# Altium schematic symbol library SCH - MCU - NUVOTON - NUVOTON M058SLAN.SchLib: 1 symbol
Pins are listed as number, name and electrical type; pins without a type are passive.

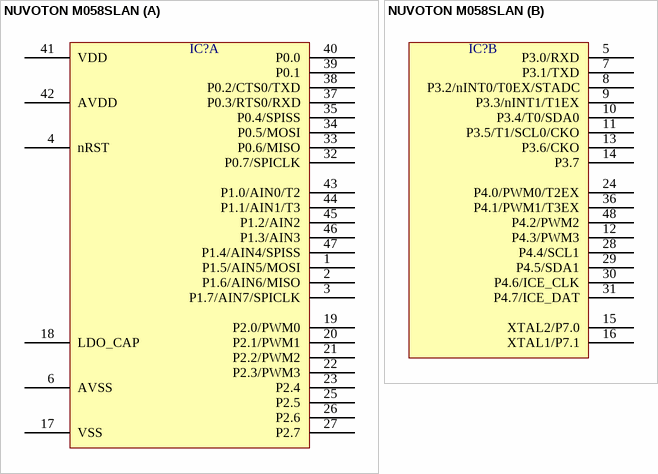
[diagram p0: symbol NUVOTON M058SLAN]

## NUVOTON M058SLAN
designator IC?  (value not drawn)
part A pins: 1 P1.5/AIN5/MOSI, 2 P1.6/AIN6/MISO, 3 P1.7/AIN7/SPICLK, 4 nRST, 6 AVSS, 17 VSS, 18 LDO_CAP, 19 P2.0/PWM0, 20 P2.1/PWM1, 21 P2.2/PWM2, 22 P2.3/PWM3, 23 P2.4, 25 P2.5, 26 P2.6, 27 P2.7, 32 P0.7/SPICLK, 33 P0.6/MISO, 34 P0.5/MOSI, 35 P0.4/SPISS, 37 P0.3/RTS0/RXD, 38 P0.2/CTS0/TXD, 39 P0.1, 40 P0.0, 41 VDD, 42 AVDD, 43 P1.0/AIN0/T2, 44 P1.1/AIN1/T3, 45 P1.2/AIN2, 46 P1.3/AIN3, 47 P1.4/AIN4/SPISS
part B pins: 5 P3.0/RXD, 7 P3.1/TXD, 8 P3.2/nINT0/T0EX/STADC, 9 P3.3/nINT1/T1EX, 10 P3.4/T0/SDA0, 11 P3.5/T1/SCL0/CKO, 12 P4.3/PWM3, 13 P3.6/CKO, 14 P3.7, 15 XTAL2/P7.0, 16 XTAL1/P7.1, 24 P4.0/PWM0/T2EX, 28 P4.4/SCL1, 29 P4.5/SDA1, 30 P4.6/ICE_CLK, 31 P4.7/ICE_DAT, 36 P4.1/PWM1/T3EX, 48 P4.2/PWM2